# Altium schematic symbol library biointerfaceController_pcb.SCHLIB: 16 symbols
Pins are listed as number, name and electrical type; pins without a type are passive.

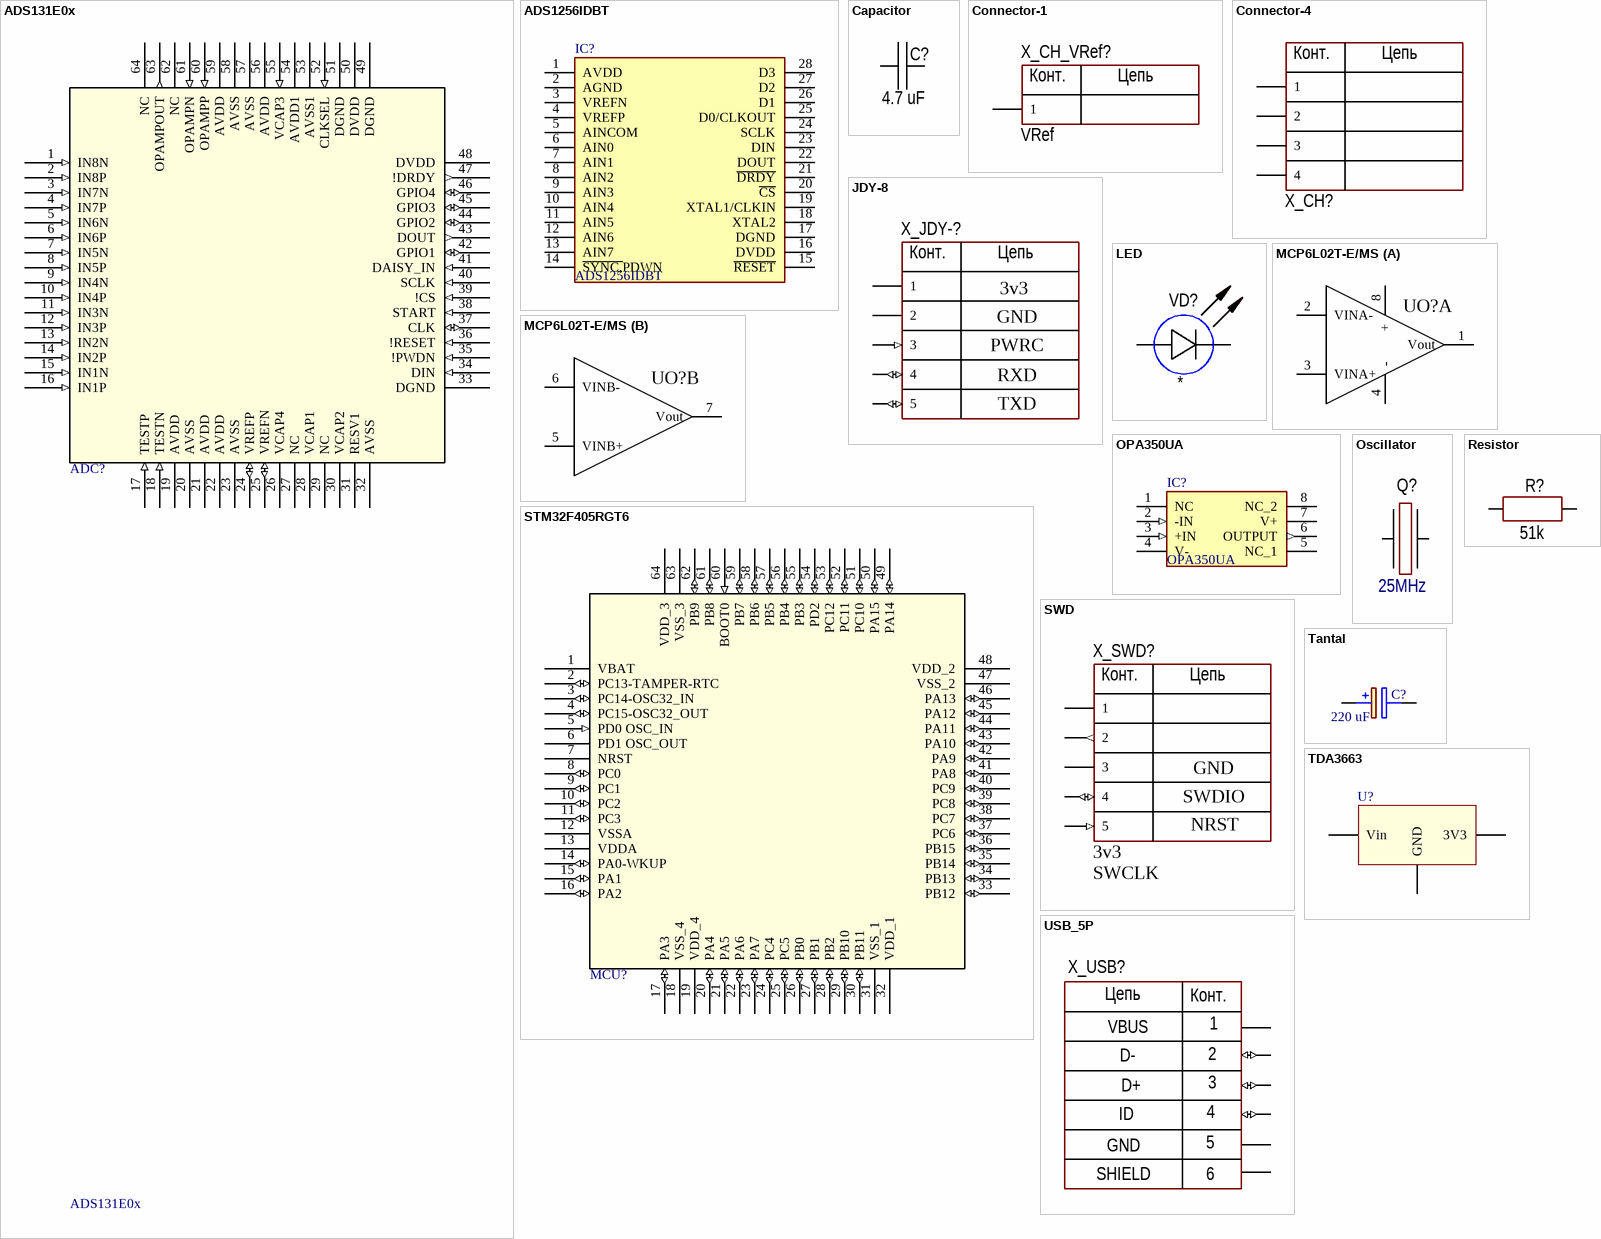
[diagram p0: symbols ADS131E0x to USB_5P]

## ADS131E0x
designator ADC?
Manufacture: Texas Instruments; Manufacturer_Part_Number: ADS131E0x; Type: ADC; URL: https://www.ti.com/lit/ds/symlink/ads131e06.pdf?ts=1633684000052&ref_url=https%253A%252F%252Fwww.google.com%252F
footprint LQFP64_L
pins: 1 IN8N (in), 2 IN8P (in), 3 IN7N (in), 4 IN7P (in), 5 IN6N (in), 6 IN6P (in), 7 IN5N (in), 8 IN5P (in), 9 IN4N (in), 10 IN4P (in), 11 IN3N (in), 12 IN3P (in), 13 IN2N (in), 14 IN2P (in), 15 IN1N (in), 16 IN1P (in), 17 TESTP (in), 18 TESTN (in), 19 AVDD (power), 20 AVSS (power), 21 AVDD (power), 22 AVDD (power), 23 AVSS (power), 24 VREFP (io), 25 VREFN (io), 26 VCAP4, 27 NC, 28 VCAP1, 29 NC, 30 VCAP2, 31 RESV1, 32 AVSS (power), 33 DGND (power), 34 DIN (in), 35 !PWDN (in), 36 !RESET (in), 37 CLK (io), 38 START (in), 39 !CS (in), 40 SCLK (in), 41 DAISY_IN (in), 42 GPIO1 (io), 43 DOUT (out), 44 GPIO2 (io), 45 GPIO3 (io), 46 GPIO4 (io), 47 !DRDY (out), 48 DVDD (power), 49 DGND (power), 50 DVDD (power), 51 DGND (power), 52 CLKSEL (in), 53 AVSS1 (power), 54 AVDD1 (power), 55 VCAP3 (in), 56 AVDD (power), 57 AVSS (power), 58 AVSS (power), 59 AVDD (power), 60 OPAMPP (in), 61 OPAMPN (in), 62 NC, 63 OPAMPOUT (out), 64 NC

## ADS1256IDBT
designator IC?
Integrated Circuit; Manufacturer_Name: Texas Instruments; Datasheet Link: http://componentsearchengine.com/Datasheets/3/ADS1256IDBT.pdf; Height: 2mm; Manufacturer_Part_Number: ADS1256IDBT; Mouser Part Number: 595-ADS1256IDBT; Mouser Price/Stock: https://www.mouser.com/Search/Refine.aspx?Keyword=595-ADS1256IDBT; RS Part Number: 7094658P; RS Price/Stock: http://uk.rs-online.com/web/p/products/7094658P
footprint SOP65P780X200-28N
pins: 1 AVDD, 2 AGND, 3 VREFN, 4 VREFP, 5 AINCOM, 6 AIN0, 7 AIN1, 8 AIN2, 9 AIN3, 10 AIN4, 11 AIN5, 12 AIN6, 13 AIN7, 14 ~{SYNC,}PDWN, 15 ~{RESET}, 16 DVDD, 17 DGND, 18 XTAL2, 19 XTAL1/CLKIN, 20 ~{CS}, 21 ~{DRDY}, 22 DOUT, 23 DIN, 24 SCLK, 25 D0/CLKOUT, 26 D1, 27 D2, 28 D3

## Capacitor
designator C?, comment 4.7 uF
Manufacturer: *; Model: *; HelpURL: *; ComponentKind: *; Value: 4.7 uF
footprint CH0402C
footprint SMD-1206C
footprint CH0805C
footprint SMD-0603C
footprint SMD-0402C
pins: 1, 2

## Connector-1
designator X_CH_VRef?, comment VRef
Model: *; Manufacturer: *; HelpURL: *; ComponentKind: *
footprint CON: PADS 1x1mm
pins: 1
text: Конт.; Цепь

## Connector-4
designator X_CH?  (value not drawn)
Model: *; Manufacturer: *; HelpURL: *; ComponentKind: *
footprint JSTIC_Molex_125
pins: 1, 2, 3 (power), 4 (power)
text: Конт.; Цепь

## JDY-8
designator X_JDY-?, comment Pin1: 3v3  Pin2: GND  Pin3: PWRC  Pin4: RXD  Pin5: TXD  (hidden comment: SWD)
Model: SWD; Manufacturer: *; HelpURL: *; ComponentKind: *
footprint PBS-5 (Footprint not found)
pins: 1 (power) "3V3", 2 (power) "GND", 3 (in) "PWRC", 4 (io) "RXD", 5 (io) "TXD"
text: Конт.; Цепь

## LED
designator VD?
Manufacturer: *; Model: *; HelpURL: *; ComponentKind: *; Value: *
footprint CH0805LB
pins: 1 A, 2 C

## MCP6L02T-E/MS
designator UO?  (value not drawn)
Vendor: Microchip; Built_By: EMA_UL_Team; Manufacturer_Part_Number: MCP6L02T-E/MS; Copyright: Copyright (C) 2018 Accelerated Designs. All rights reserved; RefDes: RefDes; Type: DEV; Value: Value
footprint SOP65P490X110-8N
part A pins: 1 Vout, 2 VINA-, 3 VINA+, 4 - "VSS", 8 + "VDD"
part B pins: 5 VINB+, 6 VINB-, 7 Vout

## OPA350UA
designator IC?
Integrated Circuit; Manufacturer_Name: Texas Instruments; Datasheet Link: http://www.ti.com/lit/ds/symlink/opa350.pdf; Height: 1.75mm; Manufacturer_Part_Number: OPA350UA; Mouser Part Number: 595-OPA350UA; Mouser Price/Stock: https://www.mouser.com/Search/Refine.aspx?Keyword=595-OPA350UA; RS Part Number: 4618790P; RS Price/Stock: http://uk.rs-online.com/web/p/products/4618790P
footprint SOIC127P600X175-8N
pins: 1 NC, 2 -IN (in), 3 +IN (in), 4 V-, 5 NC_1, 6 OUTPUT (out), 7 V+, 8 NC_2

## Oscillator
designator Q?, comment 25MHz
Manufacturer: *; Model: *; HelpURL: *; ComponentKind: *; Value: 25MHz
footprint OSC3225
pins: 1, 3

## Resistor
designator R?, comment 51k
Manufacturer: *; Model: *; HelpURL: *; ComponentKind: *; Value: 51k
footprint CH0402R
footprint CH0805R
footprint SMD-0402R
pins: 1, 2

## STM32F405RGT6
designator MCU?  (value not drawn)
Manufacture: STMicroelectronics; Memory: 1024 Kb; Manufacturer_Part_Number: STM32F405RGT6; Type: MCU; URL: https://www.st.com/b/content/st_com/en/products/microcontrollers-microprocessors/stm32-32-bit-arm-cortex-mcus/stm32-high-performance-mcus/stm32f4-series/stm32f405-415/stm32f405rg.html#tools-software
footprint LQFP64_L
pins: 1 VBAT (power), 2 PC13-TAMPER-RTC (io), 3 PC14-OSC32_IN (io), 4 PC15-OSC32_OUT (io), 5 PD0 OSC_IN (in), 6 PD1 OSC_OUT, 7 NRST, 8 PC0 (io), 9 PC1 (io), 10 PC2 (io), 11 PC3 (io), 12 VSSA (power), 13 VDDA (power), 14 PA0-WKUP (io), 15 PA1 (io), 16 PA2 (io), 17 PA3 (io), 18 VSS_4 (power), 19 VDD_4 (power), 20 PA4 (io), 21 PA5 (io), 22 PA6 (io), 23 PA7 (io), 24 PC4 (io), 25 PC5 (io), 26 PB0 (io), 27 PB1 (io), 28 PB2 (io), 29 PB10 (io), 30 PB11 (io), 31 VSS_1 (power), 32 VDD_1 (power), 33 PB12 (io), 34 PB13 (io), 35 PB14 (io), 36 PB15 (io), 37 PC6 (io), 38 PC7 (io), 39 PC8 (io), 40 PC9 (io), 41 PA8 (io), 42 PA9 (io), 43 PA10 (io), 44 PA11 (io), 45 PA12 (io), 46 PA13 (io), 47 VSS_2 (power), 48 VDD_2 (power), 49 PA14 (io), 50 PA15 (io), 51 PC10 (io), 52 PC11 (io), 53 PC12 (io), 54 PD2 (io), 55 PB3 (io), 56 PB4 (io), 57 PB5 (io), 58 PB6 (io), 59 PB7 (io), 60 BOOT0 (in), 61 PB8 (io), 62 PB9 (io), 63 VSS_3 (power), 64 VDD_3 (power)

## SWD
designator X_SWD?  Pin1: 3v3  Pin2: SWCLK  Pin3: GND  Pin4: SWDIO  Pin5: NRST  (hidden comment: SWD)
Model: SWD; Manufacturer: *; HelpURL: *; ComponentKind: *
footprint PBS-5
footprint HDRV4W64P0X254_1X5_1016X254X550P
pins: 1 (power) "3v3", 2 (out) "SWCLK", 3 (power) "GND", 4 (io) "SWDIO", 5 (in) "NRST"
text: Конт.; Цепь

## Tantal
designator C?, comment 220 uF
Capacitor Polarised Tantal; Value: 220 uF
footprint TANTAL_B_3528X210N
footprint TANTAL_C_6032X280N
pins: 1 +, 2 -

## TDA3663
designator U?
Model: TDA3663; Manafacture: *; URL: *
footprint SOT-223-2 (SOT-223/SC-73; 4 Leads; Body 6.7 x 7.3 mm, inc. leads (LxW max))
pins: 1 Vin, 2 GND, 3 3V3, 4 GND hidden

## USB_5P
designator X_USB?, comment USB  (value not drawn)
Manufacturer: *; HelpURL: *; ComponentKind: *; Model: *
footprint mini_USB_A_5P
pins: 1 (power) "Vbus", 2 (io) "D-", 3 (io) "D+", 4 (io) "ID", 5 (power) "GND", 6 (power) "SHIELD"
text: Цепь; Конт.; VBUS; D-; D+; ID; GND; SHIELD